# Altium footprint library 1206 Polarized.PcbLib: 1 footprints
Each footprint in its own frame and in the unit in brackets; x right, y up, seen from the top. Pads: shape width x height; smd on the part's side, far side on the other; paste and mask are expansions set on the pad; w line width, h text height; cw(c..) or ccw(c..) is an arc to the next point about the centre after c.
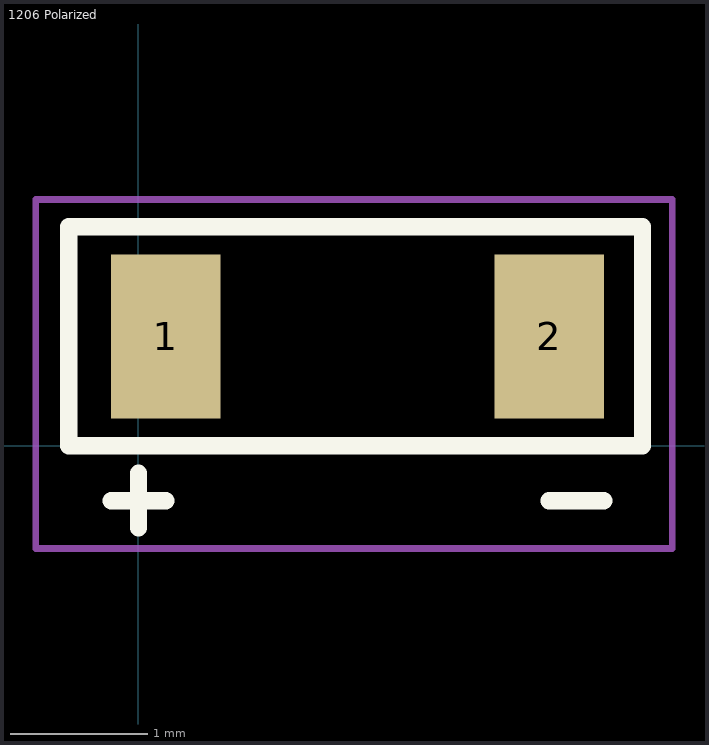
[diagram p0: the footprint, top view; thin cyan lines are the x and y axes]

## 1206 Polarized [mm]
pads (2):
  rect 0.8x1.2 smd: 1(0.2,0.8) 2(3,0.8)
Top Overlay:
  lines w0.127: -0.2,-0.4 0.2,-0.4 ; 0,-0.6 0,-0.2 ; 3,-0.4 3.4,-0.4 ; -0.508,0 3.683,0 3.683,1.6 -0.508,1.6 -0.508,0
Mechanical 15:
  lines w0.05: -0.75,-0.75 -0.75,1.5 -0.75,1.8 3.9,1.8 3.9,-0.75 -0.75,-0.75